# Altium schematic symbol library Reference.SchLib: 1 symbol
Pins are listed as number, name and electrical type; pins without a type are passive.

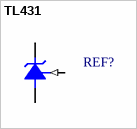
[diagram p0: symbol TL431]

## TL431
designator REF?
Adjustable Precision Zener Shunt Regulator, 3-pin; PartNumber: TL431; PackageReference: SOT-23-3; PinCount: 3; value: *
footprint SOT-23-3
pins: 1 K, 2 REF (in), 3 A